# EAGLE library part ULCD-28PTU (library formula electric)
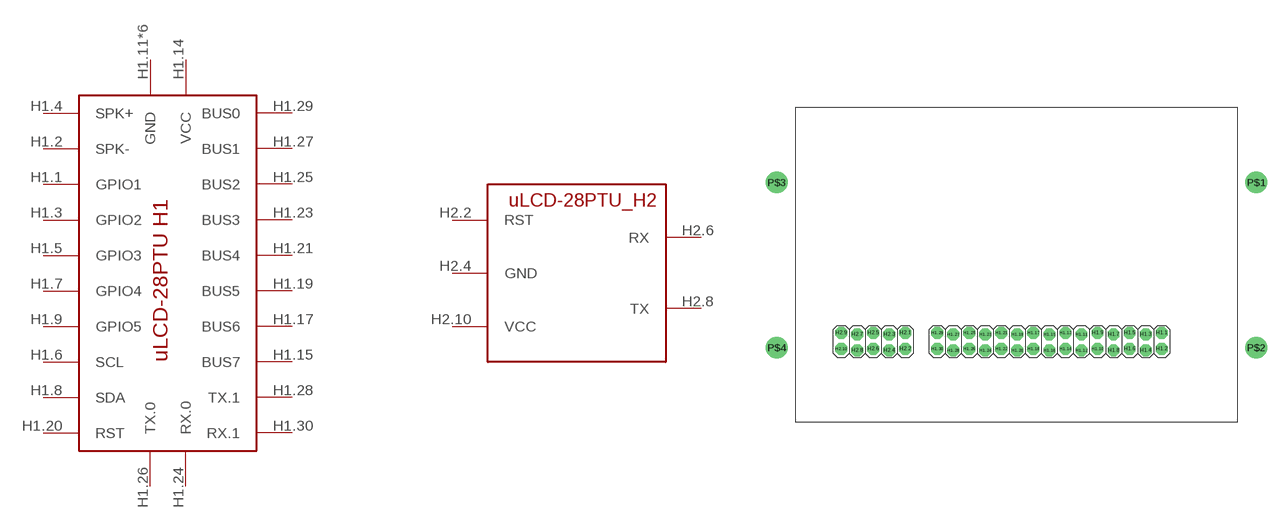
[diagram p9: symbol with the pads of μLCD-28PTU; footprint μLCD-28PTU]

Designator prefix -; gates G$1=ULCD-28PTU_H1 G$2=ULCD-28PTU_H2

## ULCD-28PTU  [μLCD-28PTU]
H1.1  G$1:GPIO1
H1.2  G$1:SPK-
H1.3  G$1:GPIO2
H1.4  G$1:SPK+
H1.5  G$1:GPIO3
H1.6  G$1:SCL
H1.7  G$1:GPIO4
H1.8  G$1:SDA
H1.9  G$1:GPIO5
H1.11  G$1:GND
H1.13  G$1:GND
H1.14  G$1:VCC  pwr
H1.15  G$1:BUS7
H1.17  G$1:BUS6
H1.19  G$1:BUS5
H1.20  G$1:RST
H1.21  G$1:BUS4
H1.23  G$1:BUS3
H1.24  G$1:RX.0
H1.25  G$1:BUS2
H1.26  G$1:TX.0
H1.27  G$1:BUS1
H1.28  G$1:TX.1
H1.29  G$1:BUS0
H1.30  G$1:RX.1
H2.2  G$2:RST
H2.4  G$2:GND
H2.6  G$2:RX
H2.8  G$2:TX
H2.10  G$2:VCC
P$1  G$1:GND
P$2  G$1:GND
P$3  G$1:GND
P$4  G$1:GND

## Footprint μLCD-28PTU (pad centres in mm)
drill 1.016 pad 1.88 octagon: H1.1 -12,14.24; H1.2 -12,11.7; H1.3 -14.54,13.986; H1.4 -14.54,11.446; H1.5 -17.08,14.24; H1.6 -17.08,11.7; H1.7 -19.62,13.986; H1.8 -19.62,11.446; H1.9 -22.16,14.24; H1.10 -22.16,11.7; H1.11 -24.7,13.986; H1.12 -24.7,11.446; H1.13 -27.24,14.24; H1.14 -27.24,11.7; H1.15 -29.78,13.986; H1.16 -29.78,11.446; H1.17 -32.32,14.24; H1.18 -32.32,11.7; H1.19 -34.86,13.986; H1.20 -34.86,11.446; H1.21 -37.4,14.24; H1.22 -37.4,11.7; H1.23 -39.94,13.986; H1.24 -39.94,11.446; H1.25 -42.48,14.24; H1.26 -42.48,11.7; H1.27 -45.02,13.986; H1.28 -45.02,11.446; H1.29 -47.56,14.24; H1.30 -47.56,11.7; H2.1 -52.64,14.24; H2.2 -52.64,11.7; H2.3 -55.18,13.986; H2.4 -55.18,11.446; H2.5 -57.72,14.24; H2.6 -57.72,11.7; H2.7 -60.26,13.986; H2.8 -60.26,11.446; H2.9 -62.8,14.24; H2.10 -62.8,11.7
drill 2.4: P$1 3,38.1; P$2 3,11.9; P$3 -73,38.1; P$4 -73,11.9